# Altium footprint library 45° Plastic Modular Jack.PcbLib: 1 footprints
Each footprint in its own frame and in the unit in brackets; x right, y up, seen from the top. Pads: shape width x height; smd on the part's side, far side on the other; paste and mask are expansions set on the pad; w line width, h text height; cw(c..) or ccw(c..) is an arc to the next point about the centre after c.
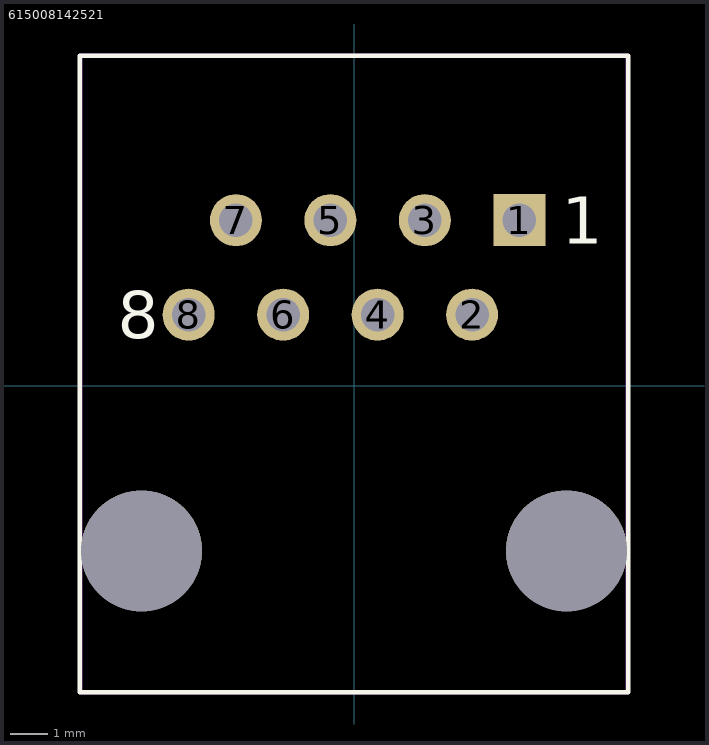
[diagram p0: the footprint, top view; thin cyan lines are the x and y axes]

## 615008142521 [mm] "45° Plastic 1x1 TH    8P8C"
height 20.4
pads (10):
  rect 1.4x1.4 hole 0.9: 1(4.445,4.445)
  round 1.4 hole 0.9: 2(3.175,1.905) 3(1.905,4.445) 4(0.635,1.905) 5(-0.635,4.445) 6(-1.905,1.905) 7(-3.175,4.445) 8(-4.445,1.905)
  round 3.25 hole 3.25 unplated: ""(-5.715,-4.445) ""(5.715,-4.445)
Top Overlay:
  lines w0.127: -7.375,-8.245 -7.375,8.865 7.375,8.865 7.375,-8.245 -7.375,-8.245
  text "8" at -6.35,1.27 h1.27
  text "1" at 5.588,3.81 h1.27
Mechanical 15:
  lines w0.127: -7.36,-8.245 -7.36,8.865 7.36,8.865 7.36,-8.245 -7.36,-8.245
3D body: height 20.4, standoff -3.31, extent -7.375,-8.245 7.375,8.865